# EAGLE library part XC2C512_FG324 (library zz-m-pad-2.1)
Xilinx's XC2C512 CoolRunner-II CPLD with 512 Macro Cells Description: The CoolRunner-II 512-macrocell device is designed for both high performance and low power applications. This lends power savings to high-end communication equipment and high speed to battery operated devices. Due to the low power stand-by and dynamic operation, overall system reliability is improved This device consists of thirty two Function Blocks inter-connected by a low power Advanced Interconnect Matrix (AIM). The AIM feeds 40 true and complement inputs to each Function Block. The Function Blocks consist of a 40 by 56 P-term PLA and 16 macrocells which contain numerous configuration bits that allow for combinational or registered modes of operation. Additionally, these registers can be globally reset or preset and configured as a D or T flip-flop or as a D latch. There are also multiple clock signals, both global and local product term types, configured on a per macrocell basis. Output pin configurations include slew rate limit, bus hold, pull-up, open drain and programmable grounds. A Schmitt-trigger input is available on a per input pin basis. In addition to storing macrocell output states, the macrocell registers may be configured as "direct input" registers to store signals directly from input pins. Clocking is available on a global or Function Block basis. Three global clocks are available for all Function Blocks as a synchronous clock source. Macrocell registers can be individually configured to power up to the zero or one state. A global set/reset control line is also available to asynchronously set or reset selected registers during operation. Additional local clock, synchronous clock-enable, asynchronous set/reset and output enable signals can be formed using product terms on a per-macrocell or per-Function Block basis. A DualEDGE flip-flop feature is also available on a per macrocell basis. This feature allows high performance synchronous operation based on lower frequency clocking to help reduce the total power consumption of the device. Circuitry has also been included to divide one externally supplied global clock (GCK2) by eight different selections. This yields divide by even and odd clock frequencies. The use of the clock divide (division by 2) and DualEDGE flip-flop gives the resultant CoolCLOCK feature. DataGATE is a method to selectively disable inputs of the CPLD that are not of interest during certain points in time. Features Optimized for 1.8V systems - As fast as 7.1 ns pin-to-pin delays - As low as 14 uA quiescent current Industry?s best 0.18 micron CMOS CPLD - Optimized architecture for effective logic synthesis - Multi-voltage I/O operation 1.5V to 3.3V Available in multiple package options - 208-pin PQFP with 173 user I/O - 256-ball FT (1.0mm) BGA with 212 user I/O - 324-ball FG (1.0mm) BGA with 270 user I/O - Pb-free available for all packages Advanced system features - Fastest in system programming · 1.8V ISP using IEEE 1532 (JTAG) interface - IEEE1149.1 JTAG Boundary Scan Test - Optional Schmitt-trigger input (per pin) - Unsurpassed low power management · DataGATE enable signal control - Four separate I/O banks - RealDigital 100% CMOS product term generation - Flexible clocking modes · Optional DualEDGE triggered registers · Clock divider (divide by 2,4,6,8,10,12,14,16) · CoolCLOCK - Global signal options with macrocell control · Multiple global clocks with phase selection per macrocell · Multiple global output enables · Global set/reset - Advanced design security - PLA architecture · Superior pinout retention · 100% product term routability across function block - Open-drain output option for Wired-OR and LED drive - Optional bus-hold, 3-state or weak pullup on selected I/O pins - Optional configurable grounds on unused I/Os - Mixed I/O voltages compatible with 1.5V, 1.8V, 2.5V, and 3.3V logic levels · SSTL2-1, SSTL3-1, and HSTL-1 I/O compatibility - Hot Pluggable Please send any comments to: messi@users.sourceforge.net
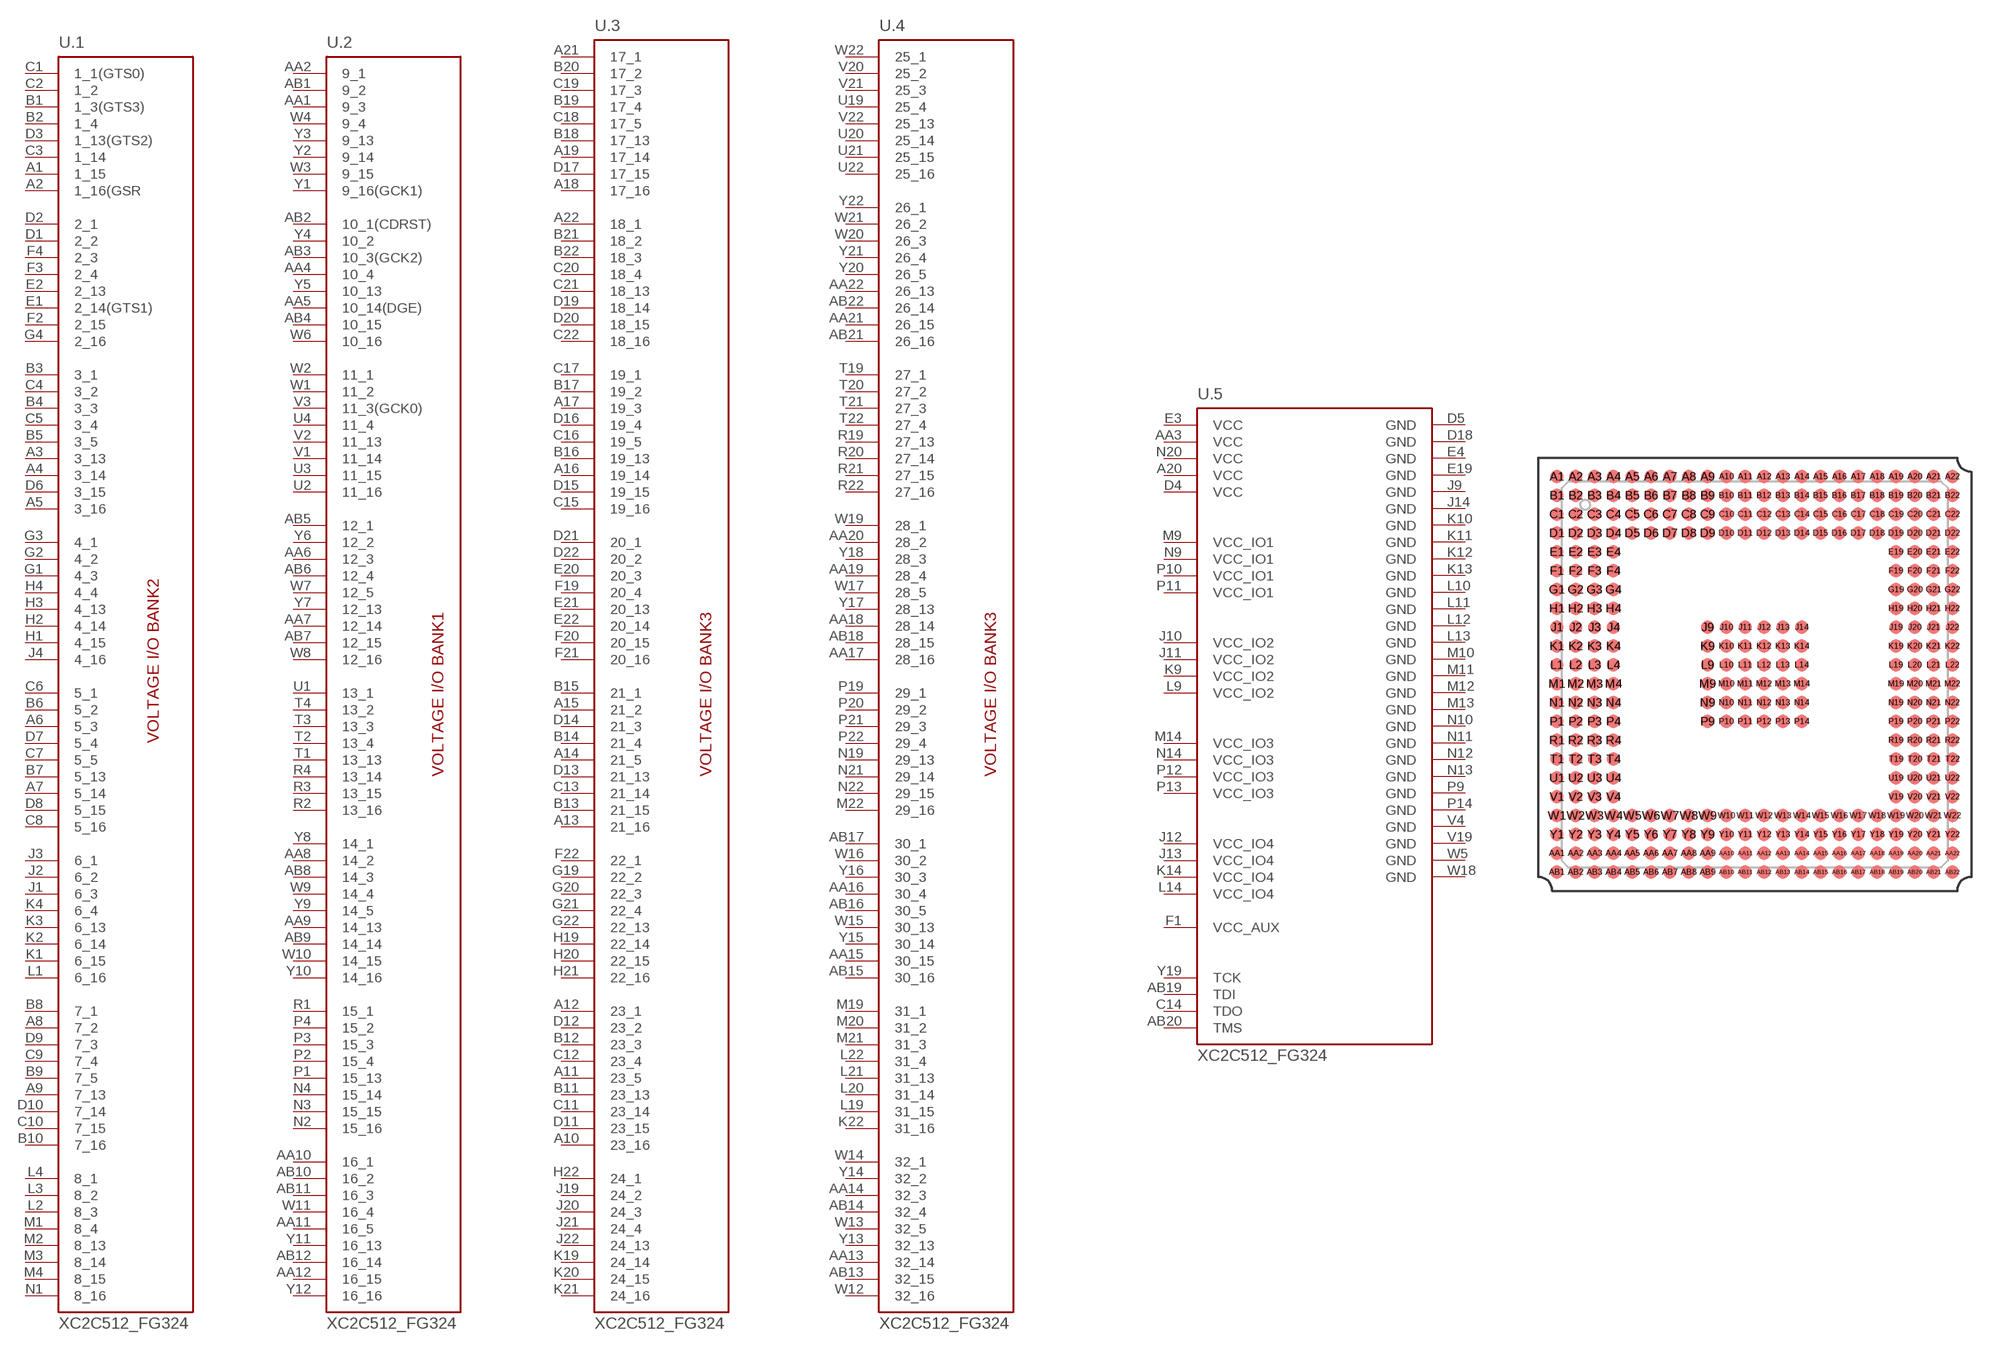
[diagram p159: symbol with the pads of FG324; footprint FG324]

Designator prefix U; gates .1=XC2C512_FG324_1_8 .2=XC2C512_FG324_9_16 .3=XC2C512_FG324_17_24 .4=XC2C512_FG324_25_32 .5=XC2C5120_FG324_PWR

## XC2C512_FG324  [FG324]
A1  .1:1_15
A2  .1:1_16(GSR
A3  .1:3_13
A4  .1:3_14
A5  .1:3_16
A6  .1:5_3
A7  .1:5_14
A8  .1:7_2
A9  .1:7_13
A10  .3:23_16
A11  .3:23_5
A12  .3:23_1
A13  .3:21_16
A14  .3:21_5
A15  .3:21_2
A16  .3:19_14
A17  .3:19_3
A18  .3:17_16
A19  .3:17_14
A20  .5:VCC  pwr
A21  .3:17_1
A22  .3:18_1
AA1  .2:9_3
AA2  .2:9_1
AA3  .5:VCC  pwr
AA4  .2:10_4
AA5  .2:10_14(DGE)
AA6  .2:12_3
AA7  .2:12_14
AA8  .2:14_2
AA9  .2:14_13
AA10  .2:16_1
AA11  .2:16_5
AA12  .2:16_15
AA13  .4:32_14
AA14  .4:32_3
AA15  .4:30_15
AA16  .4:30_4
AA17  .4:28_16
AA18  .4:28_14
AA19  .4:28_4
AA20  .4:28_2
AA21  .4:26_15
AA22  .4:26_13
AB1  .2:9_2
AB2  .2:10_1(CDRST)
AB3  .2:10_3(GCK2)
AB4  .2:10_15
AB5  .2:12_1
AB6  .2:12_4
AB7  .2:12_15
AB8  .2:14_3
AB9  .2:14_14
AB10  .2:16_2
AB11  .2:16_3
AB12  .2:16_14
AB13  .4:32_15
AB14  .4:32_4
AB15  .4:30_16
AB16  .4:30_5
AB17  .4:30_1
AB18  .4:28_15
AB19  .5:TDI  in
AB20  .5:TMS
AB21  .4:26_16
AB22  .4:26_14
B1  .1:1_3(GTS3)
B2  .1:1_4
B3  .1:3_1
B4  .1:3_3
B5  .1:3_5
B6  .1:5_2
B7  .1:5_13
B8  .1:7_1
B9  .1:7_5
B10  .1:7_16
B11  .3:23_13
B12  .3:23_3
B13  .3:21_15
B14  .3:21_4
B15  .3:21_1
B16  .3:19_13
B17  .3:19_2
B18  .3:17_13
B19  .3:17_4
B20  .3:17_2
B21  .3:18_2
B22  .3:18_3
C1  .1:1_1(GTS0)
C2  .1:1_2
C3  .1:1_14
C4  .1:3_2
C5  .1:3_4
C6  .1:5_1
C7  .1:5_5
C8  .1:5_16
C9  .1:7_4
C10  .1:7_15
C11  .3:23_14
C12  .3:23_4
C13  .3:21_14
C14  .5:TDO  out
C15  .3:19_16
C16  .3:19_5
C17  .3:19_1
C18  .3:17_5
C19  .3:17_3
C20  .3:18_4
C21  .3:18_13
C22  .3:18_16
D1  .1:2_2
D2  .1:2_1
D3  .1:1_13(GTS2)
D4  .5:VCC  pwr
D5  .5:GND  pwr
D6  .1:3_15
D7  .1:5_4
D8  .1:5_15
D9  .1:7_3
D10  .1:7_14
D11  .3:23_15
D12  .3:23_2
D13  .3:21_13
D14  .3:21_3
D15  .3:19_15
D16  .3:19_4
D17  .3:17_15
D18  .5:GND  pwr
D19  .3:18_14
D20  .3:18_15
D21  .3:20_1
D22  .3:20_2
E1  .1:2_14(GTS1)
E2  .1:2_13
E3  .5:VCC  pwr
E4  .5:GND  pwr
E19  .5:GND  pwr
E20  .3:20_3
E21  .3:20_13
E22  .3:20_14
F1  .5:VCC_AUX  pwr
F2  .1:2_15
F3  .1:2_4
F4  .1:2_3
F19  .3:20_4
F20  .3:20_15
F21  .3:20_16
F22  .3:22_1
G1  .1:4_3
G2  .1:4_2
G3  .1:4_1
G4  .1:2_16
G19  .3:22_2
G20  .3:22_3
G21  .3:22_4
G22  .3:22_13
H1  .1:4_15
H2  .1:4_14
H3  .1:4_13
H4  .1:4_4
H19  .3:22_14
H20  .3:22_15
H21  .3:22_16
H22  .3:24_1
J1  .1:6_3
J2  .1:6_2
J3  .1:6_1
J4  .1:4_16
J9  .5:GND  pwr
J10  .5:VCC_IO2  pwr
J11  .5:VCC_IO2  pwr
J12  .5:VCC_IO4  pwr
J13  .5:VCC_IO4  pwr
J14  .5:GND  pwr
J19  .3:24_2
J20  .3:24_3
J21  .3:24_4
J22  .3:24_13
K1  .1:6_15
K2  .1:6_14
K3  .1:6_13
K4  .1:6_4
K9  .5:VCC_IO2  pwr
K10  .5:GND  pwr
K11  .5:GND  pwr
K12  .5:GND  pwr
K13  .5:GND  pwr
K14  .5:VCC_IO4  pwr
K19  .3:24_14
K20  .3:24_15
K21  .3:24_16
K22  .4:31_16
L1  .1:6_16
L2  .1:8_3
L3  .1:8_2
L4  .1:8_1
L9  .5:VCC_IO2  pwr
L10  .5:GND  pwr
L11  .5:GND  pwr
L12  .5:GND  pwr
L13  .5:GND  pwr
L14  .5:VCC_IO4  pwr
L19  .4:31_15
L20  .4:31_14
L21  .4:31_13
L22  .4:31_4
M1  .1:8_4
M2  .1:8_13
M3  .1:8_14
M4  .1:8_15
M9  .5:VCC_IO1  pwr
M10  .5:GND  pwr
M11  .5:GND  pwr
M12  .5:GND  pwr
M13  .5:GND  pwr
M14  .5:VCC_IO3  pwr
M19  .4:31_1
M20  .4:31_2
M21  .4:31_3
M22  .4:29_16
N1  .1:8_16
N2  .2:15_16
N3  .2:15_15
N4  .2:15_14
N9  .5:VCC_IO1  pwr
N10  .5:GND  pwr
N11  .5:GND  pwr
N12  .5:GND  pwr
N13  .5:GND  pwr
N14  .5:VCC_IO3  pwr
N19  .4:29_13
N20  .5:VCC  pwr
N21  .4:29_14
N22  .4:29_15
P1  .2:15_13
P2  .2:15_4
P3  .2:15_3
P4  .2:15_2
P9  .5:GND  pwr
P10  .5:VCC_IO1  pwr
P11  .5:VCC_IO1  pwr
P12  .5:VCC_IO3  pwr
P13  .5:VCC_IO3  pwr
P14  .5:GND  pwr
P19  .4:29_1
P20  .4:29_2
P21  .4:29_3
P22  .4:29_4
R1  .2:15_1
R2  .2:13_16
R3  .2:13_15
R4  .2:13_14
R19  .4:27_13
R20  .4:27_14
R21  .4:27_15
R22  .4:27_16
T1  .2:13_13
T2  .2:13_4
T3  .2:13_3
T4  .2:13_2
T19  .4:27_1
T20  .4:27_2
T21  .4:27_3
T22  .4:27_4
U1  .2:13_1
U2  .2:11_16
U3  .2:11_15
U4  .2:11_4
U19  .4:25_4
U20  .4:25_14
U21  .4:25_15
U22  .4:25_16
V1  .2:11_14
V2  .2:11_13
V3  .2:11_3(GCK0)
V4  .5:GND  pwr
V19  .5:GND  pwr
V20  .4:25_2
V21  .4:25_3
V22  .4:25_13
W1  .2:11_2
W2  .2:11_1
W3  .2:9_15
W4  .2:9_4
W5  .5:GND  pwr
W6  .2:10_16
W7  .2:12_5
W8  .2:12_16
W9  .2:14_4
W10  .2:14_15
W11  .2:16_4
W12  .4:32_16
W13  .4:32_5
W14  .4:32_1
W15  .4:30_13
W16  .4:30_2
W17  .4:28_5
W18  .5:GND  pwr
W19  .4:28_1
W20  .4:26_3
W21  .4:26_2
W22  .4:25_1
Y1  .2:9_16(GCK1)
Y2  .2:9_14
Y3  .2:9_13
Y4  .2:10_2
Y5  .2:10_13
Y6  .2:12_2
Y7  .2:12_13
Y8  .2:14_1
Y9  .2:14_5
Y10  .2:14_16
Y11  .2:16_13
Y12  .2:16_16
Y13  .4:32_13
Y14  .4:32_2
Y15  .4:30_14
Y16  .4:30_3
Y17  .4:28_13
Y18  .4:28_3
Y19  .5:TCK  in
Y20  .4:26_5
Y21  .4:26_4
Y22  .4:26_1

## Footprint FG324 (pad centres in mm)
XILINX CPLD Package FG324
smd 0.7 x 0.7: A1 -10.5,10.5; A2 -9.5,10.5; A3 -8.5,10.5; A4 -7.5,10.5; A5 -6.5,10.5; A6 -5.5,10.5; A7 -4.5,10.5; A8 -3.5,10.5; A9 -2.5,10.5; A10 -1.5,10.5; A11 -0.5,10.5; A12 0.5,10.5; A13 1.5,10.5; A14 2.5,10.5; A15 3.5,10.5; A16 4.5,10.5; A17 5.5,10.5; A18 6.5,10.5; A19 7.5,10.5; A20 8.5,10.5; A21 9.5,10.5; A22 10.5,10.5; AA1 -10.5,-9.5; AA2 -9.5,-9.5; AA3 -8.5,-9.5; AA4 -7.5,-9.5; AA5 -6.5,-9.5; AA6 -5.5,-9.5; AA7 -4.5,-9.5; AA8 -3.5,-9.5; AA9 -2.5,-9.5; AA10 -1.5,-9.5; AA11 -0.5,-9.5; AA12 0.5,-9.5; AA13 1.5,-9.5; AA14 2.5,-9.5; AA15 3.5,-9.5; AA16 4.5,-9.5; AA17 5.5,-9.5; AA18 6.5,-9.5; AA19 7.5,-9.5; AA20 8.5,-9.5; AA21 9.5,-9.5; AA22 10.5,-9.5; AB1 -10.5,-10.5; AB2 -9.5,-10.5; AB3 -8.5,-10.5; AB4 -7.5,-10.5; AB5 -6.5,-10.5; AB6 -5.5,-10.5; AB7 -4.5,-10.5; AB8 -3.5,-10.5; AB9 -2.5,-10.5; AB10 -1.5,-10.5; AB11 -0.5,-10.5; AB12 0.5,-10.5; AB13 1.5,-10.5; AB14 2.5,-10.5; AB15 3.5,-10.5; AB16 4.5,-10.5; AB17 5.5,-10.5; AB18 6.5,-10.5; AB19 7.5,-10.5; AB20 8.5,-10.5; AB21 9.5,-10.5; AB22 10.5,-10.5; B1 -10.5,9.5; B2 -9.5,9.5; B3 -8.5,9.5; B4 -7.5,9.5; B5 -6.5,9.5; B6 -5.5,9.5; B7 -4.5,9.5; B8 -3.5,9.5; B9 -2.5,9.5; B10 -1.5,9.5; B11 -0.5,9.5; B12 0.5,9.5; B13 1.5,9.5; B14 2.5,9.5; B15 3.5,9.5; B16 4.5,9.5; B17 5.5,9.5; B18 6.5,9.5; B19 7.5,9.5; B20 8.5,9.5; B21 9.5,9.5; B22 10.5,9.5; C1 -10.5,8.5; C2 -9.5,8.5; C3 -8.5,8.5; C4 -7.5,8.5; C5 -6.5,8.5; C6 -5.5,8.5; C7 -4.5,8.5; C8 -3.5,8.5; C9 -2.5,8.5; C10 -1.5,8.5; C11 -0.5,8.5; C12 0.5,8.5; C13 1.5,8.5; C14 2.5,8.5; C15 3.5,8.5; C16 4.5,8.5; C17 5.5,8.5; C18 6.5,8.5; C19 7.5,8.5; C20 8.5,8.5; C21 9.5,8.5; C22 10.5,8.5; D1 -10.5,7.5; D2 -9.5,7.5; D3 -8.5,7.5; D4 -7.5,7.5; D5 -6.5,7.5; D6 -5.5,7.5; D7 -4.5,7.5; D8 -3.5,7.5; D9 -2.5,7.5; D10 -1.5,7.5; D11 -0.5,7.5; D12 0.5,7.5; D13 1.5,7.5; D14 2.5,7.5; D15 3.5,7.5; D16 4.5,7.5; D17 5.5,7.5; D18 6.5,7.5; D19 7.5,7.5; D20 8.5,7.5; D21 9.5,7.5; D22 10.5,7.5; E1 -10.5,6.5; E2 -9.5,6.5; E3 -8.5,6.5; E4 -7.5,6.5; E19 7.5,6.5; E20 8.5,6.5; E21 9.5,6.5; E22 10.5,6.5; F1 -10.5,5.5; F2 -9.5,5.5; F3 -8.5,5.5; F4 -7.5,5.5; F19 7.5,5.5; F20 8.5,5.5; F21 9.5,5.5; F22 10.5,5.5; G1 -10.5,4.5; G2 -9.5,4.5; G3 -8.5,4.5; G4 -7.5,4.5; G19 7.5,4.5; G20 8.5,4.5; G21 9.5,4.5; G22 10.5,4.5; H1 -10.5,3.5; H2 -9.5,3.5; H3 -8.5,3.5; H4 -7.5,3.5; H19 7.5,3.5; H20 8.5,3.5; H21 9.5,3.5; H22 10.5,3.5; J1 -10.5,2.5; J2 -9.5,2.5; J3 -8.5,2.5; J4 -7.5,2.5; J9 -2.5,2.5; J10 -1.5,2.5; J11 -0.5,2.5; J12 0.5,2.5; J13 1.5,2.5; J14 2.5,2.5; J19 7.5,2.5; J20 8.5,2.5; J21 9.5,2.5; J22 10.5,2.5; K1 -10.5,1.5; K2 -9.5,1.5; K3 -8.5,1.5; K4 -7.5,1.5; K9 -2.5,1.5; K10 -1.5,1.5; K11 -0.5,1.5; K12 0.5,1.5; K13 1.5,1.5; K14 2.5,1.5; K19 7.5,1.5; K20 8.5,1.5; K21 9.5,1.5; K22 10.5,1.5; L1 -10.5,0.5; L2 -9.5,0.5; L3 -8.5,0.5; L4 -7.5,0.5; L9 -2.5,0.5; L10 -1.5,0.5; L11 -0.5,0.5; L12 0.5,0.5; L13 1.5,0.5; L14 2.5,0.5; L19 7.5,0.5; L20 8.5,0.5; L21 9.5,0.5; L22 10.5,0.5; M1 -10.5,-0.5; M2 -9.5,-0.5; M3 -8.5,-0.5; M4 -7.5,-0.5; M9 -2.5,-0.5; M10 -1.5,-0.5; M11 -0.5,-0.5; M12 0.5,-0.5; M13 1.5,-0.5; M14 2.5,-0.5; M19 7.5,-0.5; M20 8.5,-0.5; M21 9.5,-0.5; M22 10.5,-0.5; N1 -10.5,-1.5; N2 -9.5,-1.5; N3 -8.5,-1.5; N4 -7.5,-1.5; N9 -2.5,-1.5; N10 -1.5,-1.5; N11 -0.5,-1.5; N12 0.5,-1.5; N13 1.5,-1.5; N14 2.5,-1.5; N19 7.5,-1.5; N20 8.5,-1.5; N21 9.5,-1.5; N22 10.5,-1.5; P1 -10.5,-2.5; P2 -9.5,-2.5; P3 -8.5,-2.5; P4 -7.5,-2.5; P9 -2.5,-2.5; P10 -1.5,-2.5; P11 -0.5,-2.5; P12 0.5,-2.5; P13 1.5,-2.5; P14 2.5,-2.5; P19 7.5,-2.5; P20 8.5,-2.5; P21 9.5,-2.5; P22 10.5,-2.5; R1 -10.5,-3.5; R2 -9.5,-3.5; R3 -8.5,-3.5; R4 -7.5,-3.5; R19 7.5,-3.5; R20 8.5,-3.5; R21 9.5,-3.5; R22 10.5,-3.5; T1 -10.5,-4.5; T2 -9.5,-4.5; T3 -8.5,-4.5; T4 -7.5,-4.5; T19 7.5,-4.5; T20 8.5,-4.5; T21 9.5,-4.5; T22 10.5,-4.5; U1 -10.5,-5.5; U2 -9.5,-5.5; U3 -8.5,-5.5; U4 -7.5,-5.5; U19 7.5,-5.5; U20 8.5,-5.5; U21 9.5,-5.5; U22 10.5,-5.5; V1 -10.5,-6.5; V2 -9.5,-6.5; V3 -8.5,-6.5; V4 -7.5,-6.5; V19 7.5,-6.5; V20 8.5,-6.5; V21 9.5,-6.5; V22 10.5,-6.5; W1 -10.5,-7.5; W2 -9.5,-7.5; W3 -8.5,-7.5; W4 -7.5,-7.5; W5 -6.5,-7.5; W6 -5.5,-7.5; W7 -4.5,-7.5; W8 -3.5,-7.5; W9 -2.5,-7.5; W10 -1.5,-7.5; W11 -0.5,-7.5; W12 0.5,-7.5; W13 1.5,-7.5; W14 2.5,-7.5; W15 3.5,-7.5; W16 4.5,-7.5; W17 5.5,-7.5; W18 6.5,-7.5; W19 7.5,-7.5; W20 8.5,-7.5; W21 9.5,-7.5; W22 10.5,-7.5; Y1 -10.5,-8.5; Y2 -9.5,-8.5; Y3 -8.5,-8.5; Y4 -7.5,-8.5; Y5 -6.5,-8.5; Y6 -5.5,-8.5; Y7 -4.5,-8.5; Y8 -3.5,-8.5; Y9 -2.5,-8.5; Y10 -1.5,-8.5; Y11 -0.5,-8.5; Y12 0.5,-8.5; Y13 1.5,-8.5; Y14 2.5,-8.5; Y15 3.5,-8.5; Y16 4.5,-8.5; Y17 5.5,-8.5; Y18 6.5,-8.5; Y19 7.5,-8.5; Y20 8.5,-8.5; Y21 9.5,-8.5; Y22 10.5,-8.5